# Altium footprint library SA412.PCBLIB: 1 footprints
Each footprint in its own frame and in the unit in brackets; x right, y up, seen from the top. Pads: shape width x height; smd on the part's side, far side on the other; paste and mask are expansions set on the pad; w line width, h text height; cw(c..) or ccw(c..) is an arc to the next point about the centre after c.
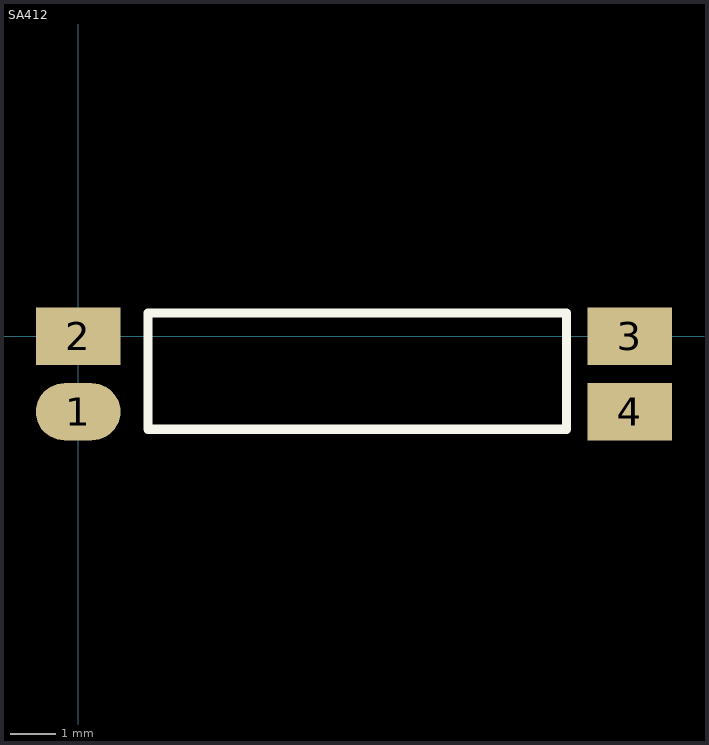
[diagram p0: the footprint, top view; thin cyan lines are the x and y axes]

## SA412 [mm] "125kHz Transponder surface mount antenna"
height 0.081
pads (4):
  oval 1.85x1.25 smd: 1(0,-1.65)
  rect 1.85x1.25 smd: 2(0,0) 3(12.05,0) 4(12.05,-1.65)
Top Overlay:
  lines w0.2: 1.524,-2.032 10.668,-2.032 10.668,0.508 1.524,0.508 1.524,-2.032